# EAGLE library part J1B1211CCD (library TeensyROM)
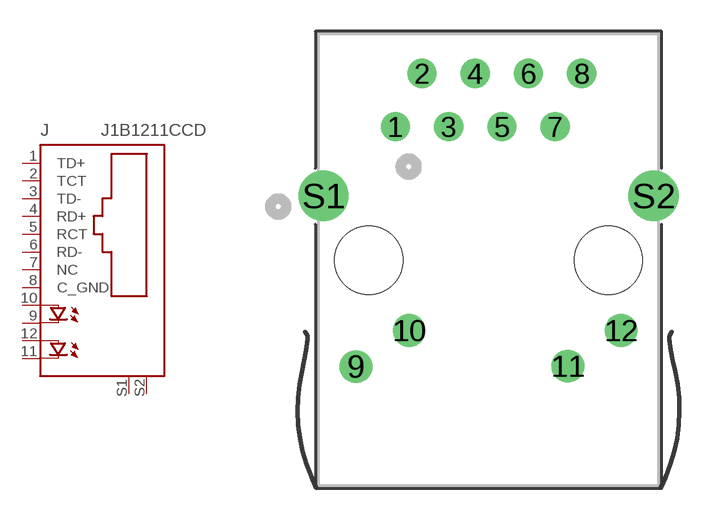
[diagram p6: symbol with the pads of CONN12_J1B1211CCD_WIZ; footprint CONN12_J1B1211CCD_WIZ]

Designator prefix J

## J1B1211CCD (COPYRIGHT: Copyright (C) 2023 Ultra Librarian. All rights reserved.; MANUFACTURER_PART_NUMBER: J1B1211CCD; MFR_NAME: WIZnet)  [CONN12_J1B1211CCD_WIZ]
1  TD+  pas
2  TCT  pas
3  TD-  pas
4  RD+  pas
5  RCT  pas
6  RD-  pas
7  NC  pas
8  C_GND  pas
9  C  pas
10  A  pas
11  C1  pas
12  A1  pas
S1  S1  pas
S2  S2  pas

## Footprint CONN12_J1B1211CCD_WIZ (pad centres in mm)
drill 0.889 pad 1.397: 1 -4.445,5.055; 2 -3.175,7.595; 3 -1.905,5.055; 4 -0.635,7.595; 5 0.635,5.055; 6 1.905,7.595; 7 3.175,5.055; 8 4.445,7.595
drill 1.041 pad 1.549: 9 -6.325,-6.401; 10 -3.785,-4.674; 11 3.785,-6.375; 12 6.325,-4.674
drill 1.6 pad 2.108: S1 -7.874,1.753; S2 7.874,1.753
hole 3.251 at -5.715,-1.321
hole 3.251 at 5.715,-1.321